# Altium schematic symbol library PT2272.SchLib: 1 symbol
Pins are listed as number, name and electrical type; pins without a type are passive.

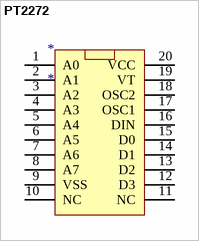
[diagram p0: symbol PT2272]

## PT2272
designator *
footprint SOP127P1040X265-20N (SOP, 20-Leads, Body 12.80x7.50mm, Pitch 1.27mm, IPC Medium Density)
pins: 1 A0, 2 A1, 3 A2, 4 A3, 5 A4, 6 A5, 7 A6, 8 A7, 9 VSS, 10 NC, 11 NC, 12 D3, 13 D2, 14 D1, 15 D0, 16 DIN, 17 OSC1, 18 OSC2, 19 VT, 20 VCC